# Altium footprint library SOP65P780X200-24N.PcbLib: 1 footprints
Each footprint in its own frame and in the unit in brackets; x right, y up, seen from the top. Pads: shape width x height; smd on the part's side, far side on the other; paste and mask are expansions set on the pad; w line width, h text height; cw(c..) or ccw(c..) is an arc to the next point about the centre after c.
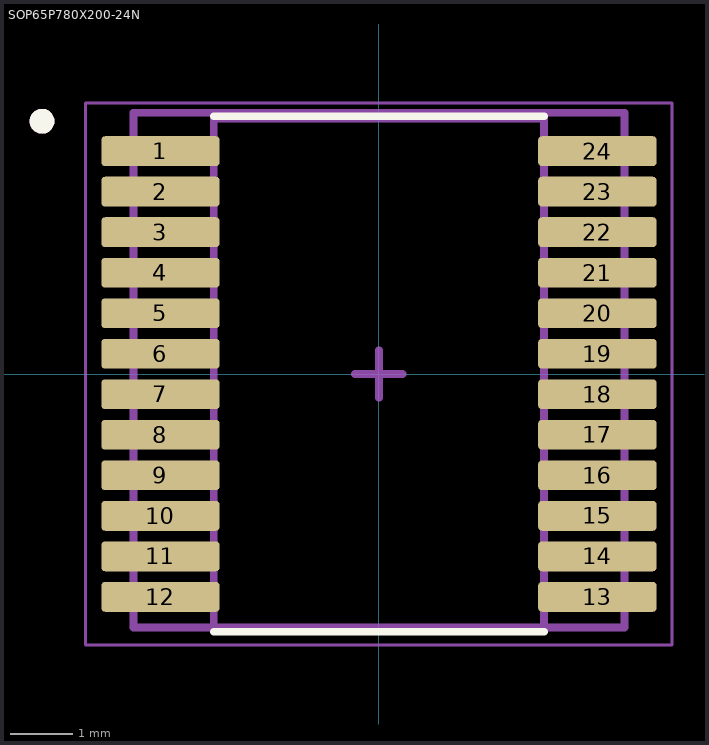
[diagram p0: the footprint, top view; thin cyan lines are the x and y axes]

## SOP65P780X200-24N [mm]
height 1.75
pads (24):
  rrect25% 1.9x0.48 smd: 1(-3.505,3.575) 2(-3.505,2.925) 3(-3.505,2.275) 4(-3.505,1.625) 5(-3.505,0.975) 6(-3.505,0.325) 7(-3.505,-0.325) 8(-3.505,-0.975) 9(-3.505,-1.625) 10(-3.505,-2.275) 11(-3.505,-2.925) 12(-3.505,-3.575) 13(3.505,-3.575) 14(3.505,-2.925) 15(3.505,-2.275) 16(3.505,-1.625) 17(3.505,-0.975) 18(3.505,-0.325) 19(3.505,0.325) 20(3.505,0.975) 21(3.505,1.625) 22(3.505,2.275) 23(3.505,2.925) 24(3.505,3.575)
Top Overlay:
  circle w0.2: c-5.405,4.055 r0.1
  lines w0.127: -2.65,-4.135 2.65,-4.135 ; -2.65,4.135 2.65,4.135
Mechanical 13:
  circle w0.2: c-5.405,4.055 r0.1
  lines w0.127: -3.937,-4.064 -3.937,4.191 3.937,4.191 3.937,-4.064 -3.937,-4.064 ; -2.65,-4.1 2.65,-4.1 2.65,4.1 -2.65,4.1 -2.65,-4.1
Mechanical 15:
  lines w0.05: -4.705,-4.35 4.705,-4.35 4.705,4.35 -4.705,4.35 -4.705,-4.35
  lines w0.127: -0.381,0 0.381,0 0,0 ; 0,0 0,0.381 0,-0.381 0,0
3D body "SN74LVCH8T245DBR.STEP": height 2, standoff 0, extent -3.9,-4.1 3.9,4.1